# Altium schematic symbol library 2026-03-10_01-30-46.SchLib: 1 symbol
Pins are listed as number, name and electrical type; pins without a type are passive.

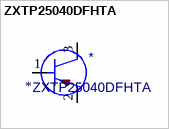
[diagram p0: symbol ZXTP25040DFHTA]

## ZXTP25040DFHTA
designator *  value ZXTP25040DFHTA
ki_fp_filters: TPNP_SOT23_ZETEX_DIO TPNP_SOT23_ZETEX_DIO-M TPNP_SOT23_ZETEX_DIO-L; Footprint: TPNP_SOT23_ZETEX_DIO; Supplier: ZXTP25040DFHTA; ki_keywords: ZXTP25040DFHTA
footprint TPNP_SOT23_ZETEX_DIO
pins: 1, 2, 3